# Altium schematic symbol library VR10S05.SchLib: 2 symbols
Pins are listed as number, name and electrical type; pins without a type are passive.

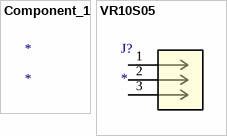
[diagram p0: symbols Component_1 to VR10S05]

## Component_1
designator *

## VR10S05
designator J?
No Description Available; Mfr_Name: XP Power; RefDes: RefDes; Type: Type
footprint CONN3_10S05_XPP
pins: 1, 2, 3